# Altium schematic symbol library INA226.SchLib: 1 symbol
Pins are listed as number, name and electrical type; pins without a type are passive.

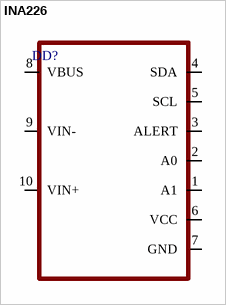
[diagram p0: symbol INA226]

## INA226
designator DD?
pins: 1 A1, 2 A0, 3 ALERT, 4 SDA, 5 SCL, 6 VCC, 7 GND, 8 VBUS, 9 VIN-, 10 VIN+